# EAGLE library part INA240A3PWR (library INA240A3PWR)
80V, Low-/High-Side, Bi-Directional, Zero-Drift, Current Sense Amp w/Enhanced PWM Rejection Source: Datasheet <http://www.ti.com/general/docs/lit/getliterature.tsp?genericPartNumber=INA240&fileType=pdf>
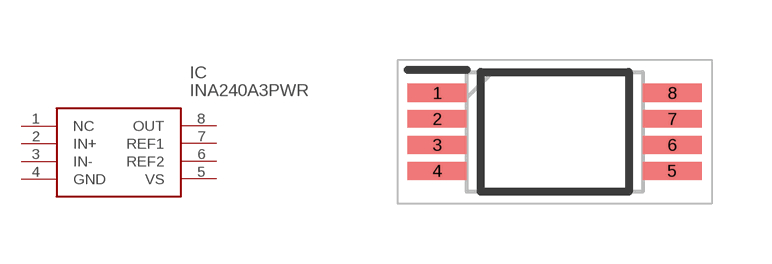
[diagram p0: symbol with the pads of SOP65P640X120-8N; footprint SOP65P640X120-8N]

Designator prefix IC

## INA240A3PWR (Arrow_Part_Number: INA240A3PWR; Arrow_Price-Stock: https://www.arrow.com/en/products/ina240a3pwr/texas-instruments; Description: 80V, Low-/High-Side, Bi-Directional, Zero-Drift, Current Sense Amp w/Enhanced PWM Rejection; Height: 1.2mm; Manufacturer_Name: Texas Instruments; Manufacturer_Part_Number: INA240A3PWR; Mouser_Part_Number: 595-INA240A3PWR; Mouser_Price-Stock: https://www.mouser.co.uk/ProductDetail/Texas-Instruments/INA240A3PWR?qs=S8zVn2bBIh8wFowK%252B7XgMA%3D%3D)  [SOP65P640X120-8N]
1  NC  nc
2  IN+
3  IN-
4  GND
5  VS
6  REF2
7  REF1
8  OUT

## Footprint SOP65P640X120-8N (pad centres in mm)
PW0008A
smd 1.475 x 0.45: 1 -2.938,0.975; 2 -2.938,0.325; 3 -2.938,-0.325; 4 -2.938,-0.975; 5 2.938,-0.975; 6 2.938,-0.325; 7 2.938,0.325; 8 2.938,0.975